# Altium footprint library DF40GB-48DP-0.4V.PcbLib: 1 footprints
Each footprint in its own frame and in the unit in brackets; x right, y up, seen from the top. Pads: shape width x height; smd on the part's side, far side on the other; paste and mask are expansions set on the pad; w line width, h text height; cw(c..) or ccw(c..) is an arc to the next point about the centre after c.
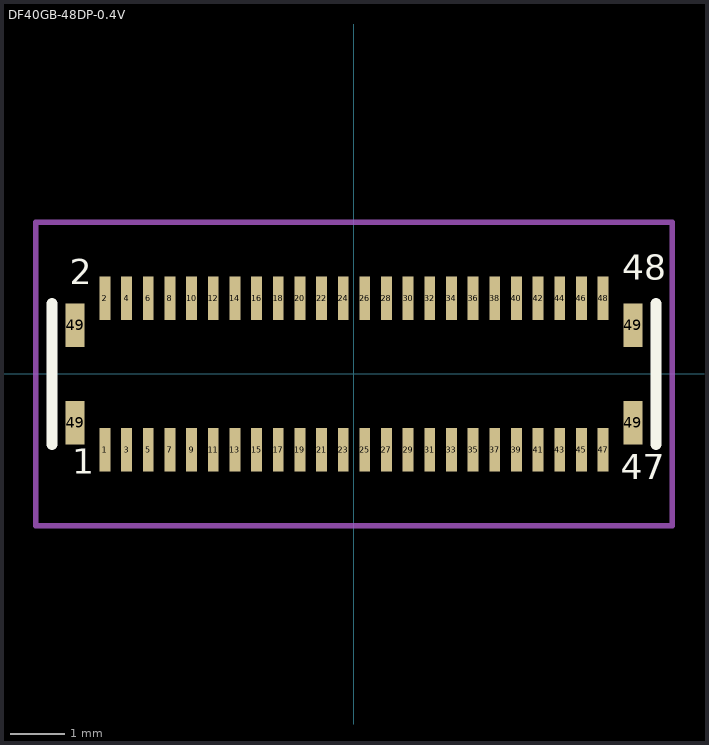
[diagram p0: the footprint, top view; thin cyan lines are the x and y axes]

## DF40GB-48DP-0.4V [mm]
pads (52):
  rect 0.2x0.8 smd: 1(-4.6,-1.4) 2(-4.6,1.4) 3(-4.2,-1.4) 4(-4.2,1.4) 5(-3.8,-1.4) 6(-3.8,1.4) 7(-3.4,-1.4) 8(-3.4,1.4) 9(-3,-1.4) 10(-3,1.4) 11(-2.6,-1.4) 12(-2.6,1.4) 13(-2.2,-1.4) 14(-2.2,1.4) 15(-1.8,-1.4) 16(-1.8,1.4) 17(-1.4,-1.4) 18(-1.4,1.4) 19(-1,-1.4) 20(-1,1.4) 21(-0.6,-1.4) 22(-0.6,1.4) 23(-0.2,-1.4) 24(-0.2,1.4) 25(0.2,-1.4) 26(0.2,1.4) 27(0.6,-1.4) 28(0.6,1.4) 29(1,-1.4) 30(1,1.4) 31(1.4,-1.4) 32(1.4,1.4) 33(1.8,-1.4) 34(1.8,1.4) 35(2.2,-1.4) 36(2.2,1.4) 37(2.6,-1.4) 38(2.6,1.4) 39(3,-1.4) 40(3,1.4) 41(3.4,-1.4) 42(3.4,1.4) 43(3.8,-1.4) 44(3.8,1.4) 45(4.2,-1.4) 46(4.2,1.4) 47(4.6,-1.4) 48(4.6,1.4)
  rect 0.35x0.8 smd: 49(-5.15,-0.9) 49(-5.15,0.9) 49(5.15,-0.9) 49(5.15,0.9)
Top Overlay:
  lines w0.2: -5.575,-1.3 -5.575,1.3 ; 5.575,-1.3 5.575,1.3
  text "48" at 4.95,1.585 h0.8
  text "47" at 4.925,-2.1 h0.8
  text "1" at -5.2,-2 h0.8
  text "2" at -5.25,1.5 h0.8
Top Courtyard:
  lines w0.1: -5.875,-2.8 5.875,-2.8 5.875,2.8 -5.875,2.8 -5.875,-2.8
3D body "DF40GB-48DP-0.4V.stp": height 1.09, standoff -0.05, extent -5.38,-1.485 5.38,1.485